# Altium footprint library Optoelectronics.PcbLib: 52 footprints (part 1 of 4)
Each footprint in its own frame and in the unit in brackets; x right, y up, seen from the top. Pads: shape width x height; smd on the part's side, far side on the other; paste and mask are expansions set on the pad; w line width, h text height; cw(c..) or ccw(c..) is an arc to the next point about the centre after c.
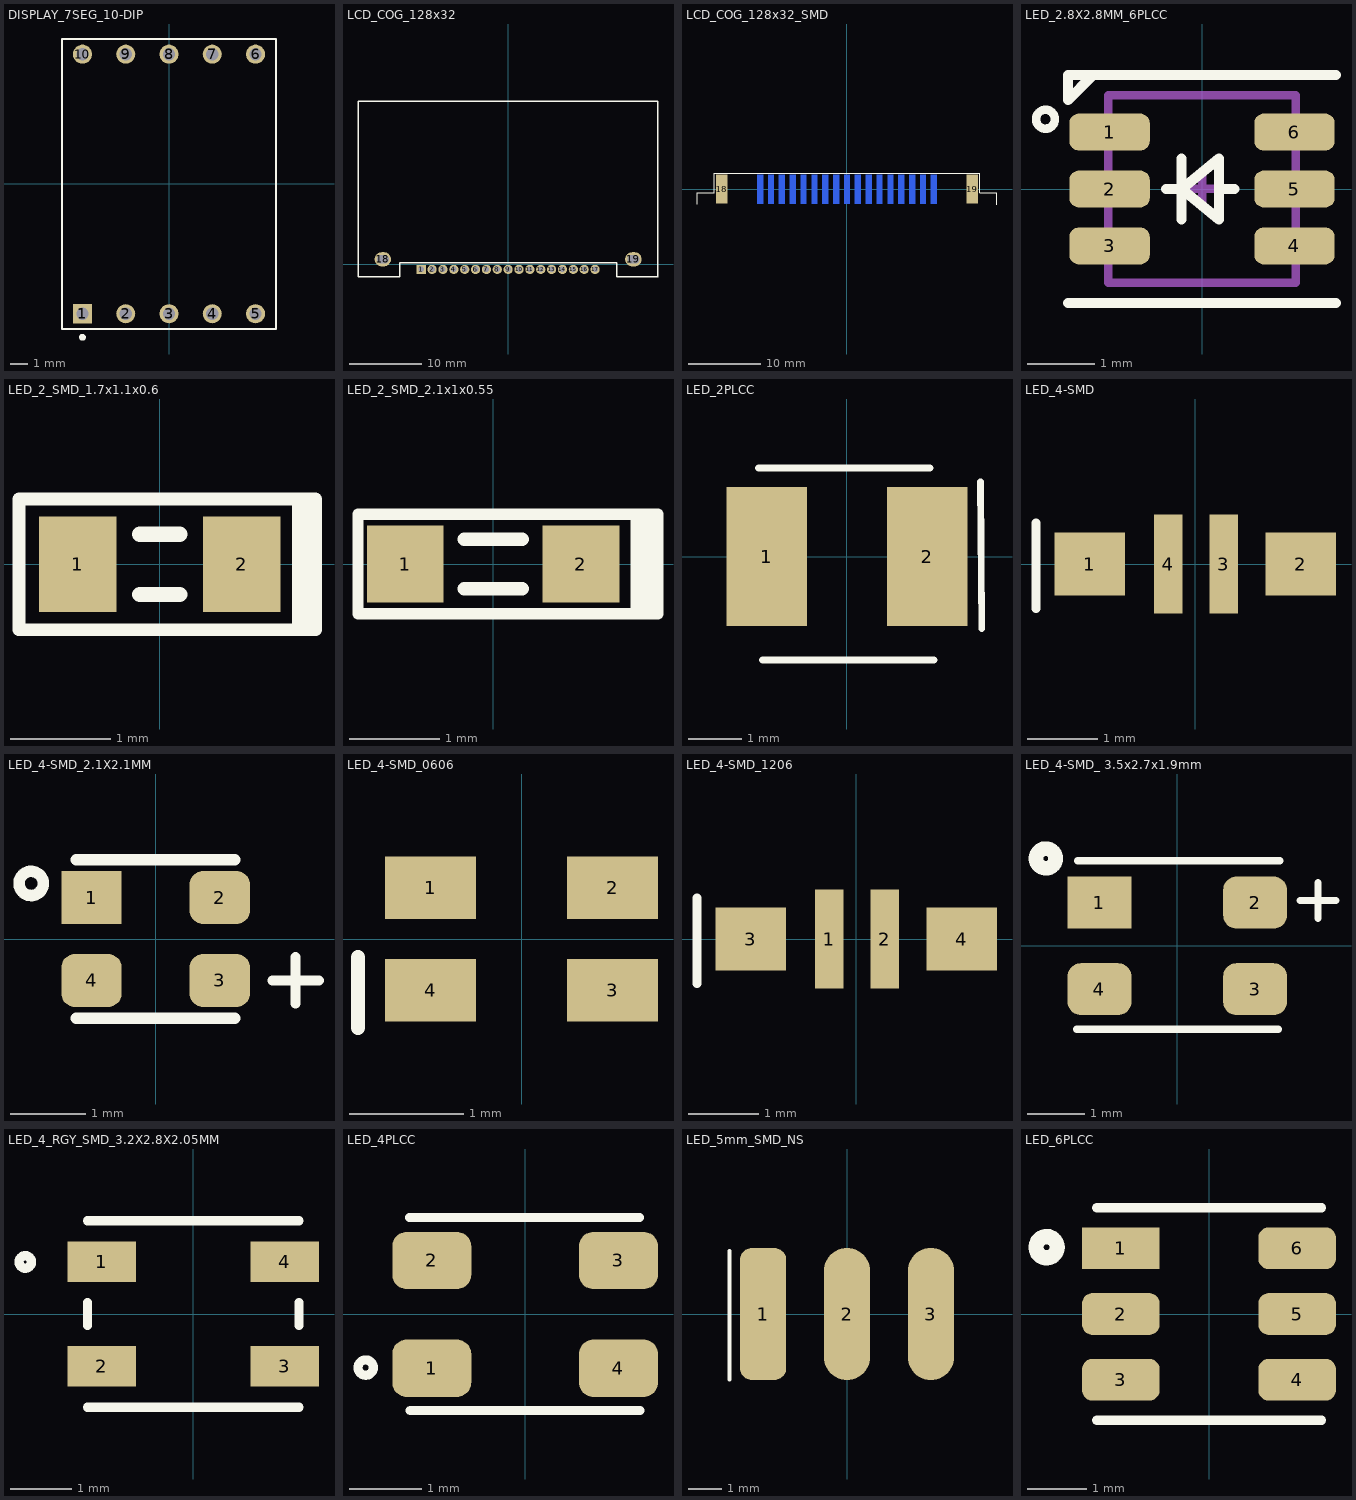
[diagram p0: the footprints below, top view; thin cyan lines are the x and y axes]

## DISPLAY_7SEG_10-DIP [mm] "/20240328/ J.Jaramillo"
pads (10):
  rect 1.12x1.12 hole 0.72: 1(-5.08,-7.62)
  round 1.12 hole 0.72: 2(-2.54,-7.62) 3(0,-7.62) 4(2.54,-7.62) 5(5.08,-7.62) 6(5.08,7.62) 7(2.54,7.62) 8(0,7.62) 9(-2.54,7.62) 10(-5.08,7.62)
Top Overlay:
  circle w0.2: c-5.08,-9 r0.1
  lines w0.127: -6.05,-8.51 -6.286,-8.51 ; -6.05,8.51 -6.286,8.51 ; 6.05,-8.51 6.286,-8.51 ; 6.05,8.51 6.286,8.51 ; -6.286,-8.51 -6.286,8.51 ; -6.286,-8.51 -6.286,8.51 ; -6.286,-8.51 6.286,-8.51 ; -6.286,8.51 6.286,8.51 ; 6.286,-8.51 6.286,8.51 ; 6.286,-8.51 6.286,8.51
3D body "User Library-KEM-5611.step": height 8.08, standoff -6.22, extent -6.301,-9.497 6.299,9.503

## LCD_COG_128x32 [mm] "128x32 pixel / 20190226 / H-D.Garcia"
pads (19):
  rect 1.27x1.27 hole 0.762: 1(-12,-0.7)
  round 1.27 hole 0.762: 2(-10.5,-0.7) 3(-9,-0.7) 4(-7.5,-0.7) 5(-6,-0.7) 6(-4.5,-0.7) 7(-3,-0.7) 8(-1.5,-0.7) 9(0,-0.7) 10(1.5,-0.7) 11(3,-0.7) 12(4.5,-0.7) 13(6,-0.7) 14(7.5,-0.7) 15(9,-0.7) 16(10.5,-0.7) 17(12,-0.7)
  oval 2.286x1.956 hole 1.143 slot 1.6 at 0 deg: 18(-17.3,0.7) 19(17.3,0.7)
Top Overlay:
  lines w0.203: -20.713,-1.741 -14.996,-1.741 -14.996,0.214 14.976,0.214 14.976,-1.741 20.693,-1.741 ; -20.71,-1.741 -20.735,22.559 20.665,22.559 ; 20.69,-1.741 20.69,22.559 20.665,22.559 ; 20.665,22.559 20.665,22.559
3D body "NHD-C12832A1Z.STEP": height 4.91, standoff -2.09, extent -20.71,-1.741 20.69,22.559

## LCD_COG_128x32_SMD [mm] "/ 20190328 / V-A.Patino"
pads (19):
  rect 0.8x4 smd far side: 1(-12,0) 2(-10.5,0) 3(-9,0) 4(-7.5,0) 5(-6,0) 6(-4.5,0) 7(-3,0) 8(-1.5,0) 9(0,0) 10(1.5,0) 11(3,0) 12(4.5,0) 13(6,0) 14(7.5,0) 15(9,0) 16(10.5,0) 17(12,0)
  rect 1.6x4 smd: 18(-17.3,0) 19(17.3,0)
Top Overlay:
  lines w0.127: -20.726,-2.083 -20.726,-0.533 -18.364,-0.533 -18.364,2.184 18.364,2.184 18.364,-0.533 20.726,-0.533 20.726,-2.159
3D body "NHD-C12832A1Z.STEP": height 22.07, standoff -2.23, extent -20.688,-5.456 20.712,1.544

## LED_2.8X2.8MM_6PLCC [mm] "6-SMD - J-LEAD / 20191210 / C-D Viveros"
height 1.6
pads (6):
  rrect50% 1.2x0.55 smd: 1(-1.38,0.85) 2(-1.38,0) 3(-1.38,-0.85) 4(1.38,-0.85) 5(1.38,0) 6(1.38,0.85)
Top Overlay:
  circle w0.127: c-2.337,1.041 r0.141
  lines w0.152: -2,-1.7 2,-1.7 ; -1.638,1.689 -2,1.327 -2,1.7 2,1.7 ; -0.533,0 -0.305,0 ; -0.305,-0.457 -0.305,0.457 ; 0.483,0 0.254,0 ; -0.305,0 0.254,-0.457 0.254,0 ; -0.305,0 0.254,0.457 0.254,0
Mechanical 1:
  lines w0.127: -1.4,-1.4 1.4,-1.4 1.4,1.4 -1.4,1.4 -1.4,-1.4
Mechanical 15:
  lines w0.127: -0.246,0 0.254,0 ; 0,-0.246 0,0.254
3D body: height 2.5, standoff 0, extent -1.4,-1.4 1.4,1.4

## LED_2_SMD_1.7x1.1x0.6 [mm] "/20220503/V-A.Patino"
pads (2):
  rect 0.77x0.95 smd: 1(-0.815,0) 2(0.815,0)
Top Overlay:
  rectangle: 1.318,-0.65 1.584,0.657
  lines w0.127: -1.4,-0.65 -1.4,0.65 1.55,0.65 1.55,-0.65 -1.4,-0.65
  lines w0.152: -0.2,-0.3 0.2,-0.3 ; -0.2,0.3 0.2,0.3
3D body: height 1.1, standoff 0, extent -0.7,-0.3 0.7,0.3

## LED_2_SMD_2.1x1x0.55 [mm] "/20220503/V-A.Patino"
pads (2):
  rect 0.85x0.86 smd: 1(-0.975,0) 2(0.975,0)
Top Overlay:
  rectangle: 1.527,-0.55 1.83,0.55
  lines w0.127: -1.5,-0.55 1.83,-0.55 ; -1.5,-0.544 -1.5,0.545 ; -1.5,0.55 1.83,0.55 ; 1.83,-0.544 1.83,0.545
  lines w0.152: -0.32,-0.275 0.32,-0.275 ; -0.32,0.275 0.32,0.275
3D body: height 1, standoff 0, extent -1.05,-0.275 1.05,0.275

## LED_2PLCC [mm] "20220822/J-E.Pachon"
pads (2):
  rect 1.5x2.6 smd: 1(-1.5,0) 2(1.5,0)
Top Overlay:
  lines w0.127: -1.652,1.654 1.548,1.654 ; -1.575,-1.93 1.625,-1.93 ; 2.489,1.397 2.515,-1.346
3D body "QBLP670.step": height 1.9, standoff 0, extent -1.75,-1.4 1.75,1.4

## LED_4-SMD [mm] "4-SMD/20201002/J-E.Pachon"
pads (4):
  rect 1x0.9 smd: 1(-1.5,0) 2(1.5,0)
  rect 0.4x1.4 smd: 3(0.405,0) 4(-0.382,0)
Top Overlay:
  lines w0.127: -2.262,-0.635 -2.262,0.584
3D body "Everlight - EASV3015RGBA0.STEP": height 1, standoff 0, extent -1.451,-1.321 1.549,0.179

## LED_4-SMD_2.1X2.1MM [mm] "/20220305/V-A.Patino"
pads (4):
  rect 0.8x0.7 smd: 1(-0.85,0.55)
  rrect50% 0.8x0.7 smd: 2(0.85,0.55) 3(0.85,-0.55) 4(-0.85,-0.55)
Top Overlay:
  circle w0.152: c-1.651,0.737 r0.161
  lines w0.127: 1.543,-0.55 2.165,-0.55 ; 1.854,-0.861 1.854,-0.239
  lines w0.152: -1.05,-1.05 1.05,-1.05 ; -1.05,1.05 1.05,1.05
3D body: height 1, standoff 0, extent -1.05,-1.05 1.05,1.05

## LED_4-SMD_0606 [mm] "/20210106/J-E.Pachon"
pads (4):
  rect 0.8x0.55 smd: 1(-0.8,0.45) 2(0.8,0.45) 3(0.8,-0.45) 4(-0.8,-0.45)
Top Overlay:
  lines w0.127: -1.438,-0.782 -1.438,-0.16
3D body "EAST1616RGBA0.STEP": height 0.46, standoff -0.05, extent -0.787,-0.807 0.813,0.793

## LED_4-SMD_1206 [mm] "/20201028/J-E.Pachon"
pads (4):
  rect 0.4x1.4 smd: 1(-0.382,0) 2(0.405,0)
  rect 1x0.9 smd: 3(-1.5,0) 4(1.5,0)
Top Overlay:
  lines w0.127: -2.262,-0.635 -2.262,0.584
3D body "11.stp": height 1.01, standoff 0.01, extent -1.576,-1.168 1.624,0.322

## LED_4-SMD_ 3.5x2.7x1.9mm [mm] "/20210707/N-A.Potosi"
pads (4):
  rect 1.105x0.9 smd: 1(-1.348,0.75)
  rrect50% 1.105x0.9 smd: 2(1.348,0.75) 3(1.348,-0.75) 4(-1.348,-0.75)
Top Overlay:
  circle w0.254: c-2.277,1.514 r0.17
  lines w0.127: -1.747,-1.446 1.753,-1.446 ; -1.725,1.473 1.775,1.473 ; 2.127,0.787 2.75,0.787 ; 2.438,0.476 2.438,1.099
3D body: height 1.9, standoff 0, extent -1.741,-1.353 1.759,1.347

## LED_4_RGY_SMD_3.2X2.8X2.05MM [mil] "/20220630/F-A.Ospina"
pads (4):
  rect 44x26 smd: 1(-58.9,33.46) 2(-58.9,-33.46) 3(58.9,-33.46) 4(58.9,33.46)
Top Overlay:
  circle w6: c-108,33.46 r4
  lines w6: -68,-60 68,-60 ; -68,-7.36 -68,7.36 ; -68,60 68,60 ; 68,-7.36 68,7.36
3D body "AA3527A.STEP": height 73.34, standoff -1.46, extent -69.9,-53.15 67.9,53.15

## LED_4PLCC [mm] "20190717/ J-P.Vargas.A"
pads (4):
  rrect50% 1.1x0.8 smd: 1(-1.3,-0.75) 2(-1.3,0.75) 3(1.3,0.75) 4(1.3,-0.75)
Top Overlay:
  lines w0.127: -2.157,-0.656 ccw(c-2.22,-0.742) -2.139,-0.673 ; -1.61,1.351 1.59,1.351 ; -1.6,-1.341 1.6,-1.341
3D body "User Library-Osram_Led_PLCC4.STEP": height 1.96, standoff 0.01, extent -1.78,-1.402 1.719,1.397

## LED_5mm_SMD_NS [mm] "20190516 / V-A.Patino"
pads (3):
  rrect50% 1.4x4 smd: 1(-2.54,0)
  oval 1.4x4 smd: 2(0,0) 3(2.54,0)
Top Overlay:
  lines w0.127: -3.556,-1.981 -3.556,1.905
3D body "RG_LED.STEP": height 2.26, standoff -1.73, extent -2.765,-1.614 2.816,8.886

## LED_6PLCC [mm] "/20230804/J-A.Sepulveda"
pads (6):
  rect 1.3x0.7 smd: 1(-1.475,1.1)
  rrect50% 1.3x0.7 smd: 2(-1.475,0) 3(-1.475,-1.1) 4(1.475,-1.1) 5(1.475,0) 6(1.475,1.1)
Top Overlay:
  circle w0.254: c-2.718,1.118 r0.178
  lines w0.152: -1.88,-1.778 1.88,-1.778 ; -1.88,1.778 1.88,1.778
3D body "User Library-LED_RGB_Osram_LRTB_G6SG.step": height 2.01, standoff 0, extent -1.8,-1.75 1.8,1.75